# EAGLE library part GM862_A (library gm862-1)
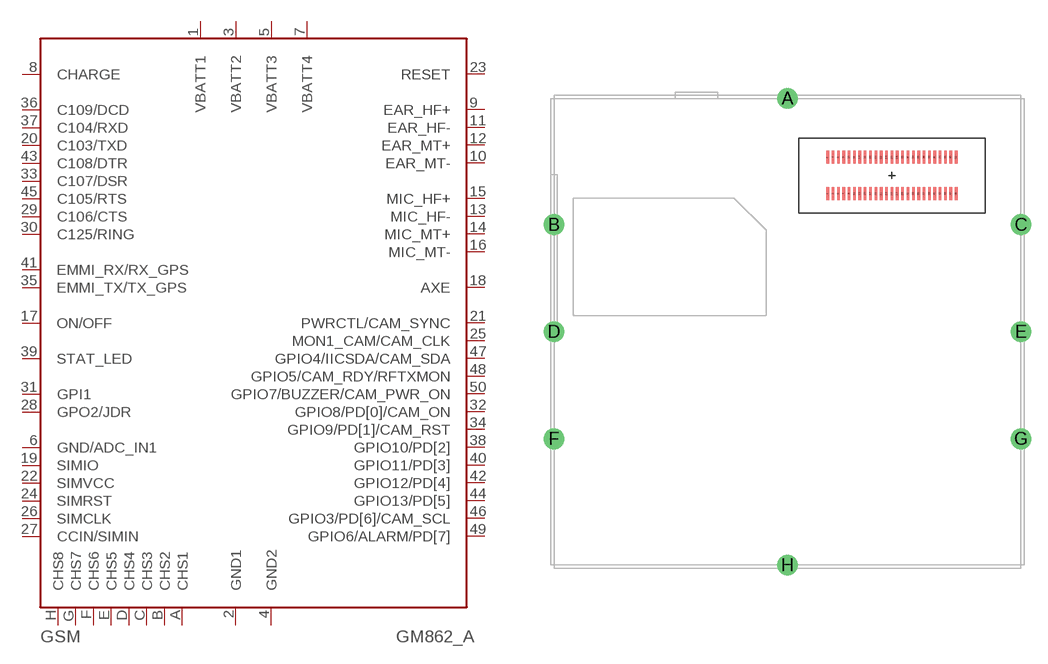
[diagram p0: symbol with the pads of GM862; footprint GM862]

Designator prefix GSM

## GM862_A  [GM862]
1  VBATT1  pas
2  GND1  pas
3  VBATT2  pas
4  GND2  pas
5  VBATT3  pas
6  GND/ADC_IN1  pas
7  VBATT4  pas
8  CHARGE  pas
9  EAR_HF+  pas
10  EAR_MT-  pas
11  EAR_HF-  pas
12  EAR_MT+  pas
13  MIC_HF-  pas
14  MIC_MT+  pas
15  MIC_HF+  pas
16  MIC_MT-  pas
17  ON/OFF  pas
18  AXE  pas
19  SIMIO  pas
20  C103/TXD  pas
21  PWRCTL/CAM_SYNC  pas
22  SIMVCC  pas
23  RESET  pas
24  SIMRST  pas
25  MON1_CAM/CAM_CLK  pas
26  SIMCLK  pas
27  CCIN/SIMIN  pas
28  GPO2/JDR  pas
29  C106/CTS  pas
30  C125/RING  pas
31  GPI1  pas
32  GPIO8/PD[0]/CAM_ON  pas
33  C107/DSR  pas
34  GPIO9/PD[1]/CAM_RST  pas
35  EMMI_TX/TX_GPS  pas
36  C109/DCD  pas
37  C104/RXD  pas
38  GPIO10/PD[2]  pas
39  STAT_LED  pas
40  GPIO11/PD[3]  pas
41  EMMI_RX/RX_GPS  pas
42  GPIO12/PD[4]  pas
43  C108/DTR  pas
44  GPIO13/PD[5]  pas
45  C105/RTS  pas
46  GPIO3/PD[6]/CAM_SCL  pas
47  GPIO4/IICSDA/CAM_SDA  pas
48  GPIO5/CAM_RDY/RFTXMON  pas
49  GPIO6/ALARM/PD[7]  pas
50  GPIO7/BUZZER/CAM_PWR_ON  pas
A  CHS1  pas
B  CHS2  pas
C  CHS3  pas
D  CHS4  pas
E  CHS5  pas
F  CHS6  pas
G  CHS7  pas
H  CHS8  pas

## Footprint GM862 (pad centres in mm)
GM862 layout
smd 0.25 x 1.2: 1 3.75,12.9; 2 3.75,16.3; 3 4.25,12.9; 4 4.25,16.3; 5 4.75,12.9; 6 4.75,16.3; 7 5.25,12.9; 8 5.25,16.3; 9 5.75,12.9; 10 5.75,16.3; 11 6.25,12.9; 12 6.25,16.3; 13 6.75,12.9; 14 6.75,16.3; 15 7.25,12.9; 16 7.25,16.3; 17 7.75,12.9; 18 7.75,16.3; 19 8.25,12.9; 20 8.25,16.3; 21 8.75,12.9; 22 8.75,16.3; 23 9.25,12.9; 24 9.25,16.3; 25 9.75,12.9; 26 9.75,16.3; 27 10.25,12.9; 28 10.25,16.3; 29 10.75,12.9; 30 10.75,16.3; 31 11.25,12.9; 32 11.25,16.3; 33 11.75,12.9; 34 11.75,16.3; 35 12.25,12.9; 36 12.25,16.3; 37 12.75,12.9; 38 12.75,16.3; 39 13.25,12.9; 40 13.25,16.3; 41 13.75,12.9; 42 13.75,16.3; 43 14.25,12.9; 44 14.25,16.3; 45 14.75,12.9; 46 14.75,16.3; 47 15.25,12.9; 48 15.25,16.3; 49 15.75,12.9; 50 15.75,16.3
drill 1.3 round: A 0,21.8; B -21.8,10; C 21.8,10; D -21.8,0; E 21.8,0; F -21.8,-10; G 21.8,-10; H 0,-21.8